# Altium footprint library 驱动第二板.PcbLib: 20 footprints (part 1 of 2)
Each footprint in its own frame and in the unit in brackets; x right, y up, seen from the top. Pads: shape width x height; smd on the part's side, far side on the other; paste and mask are expansions set on the pad; w line width, h text height; cw(c..) or ccw(c..) is an arc to the next point about the centre after c.
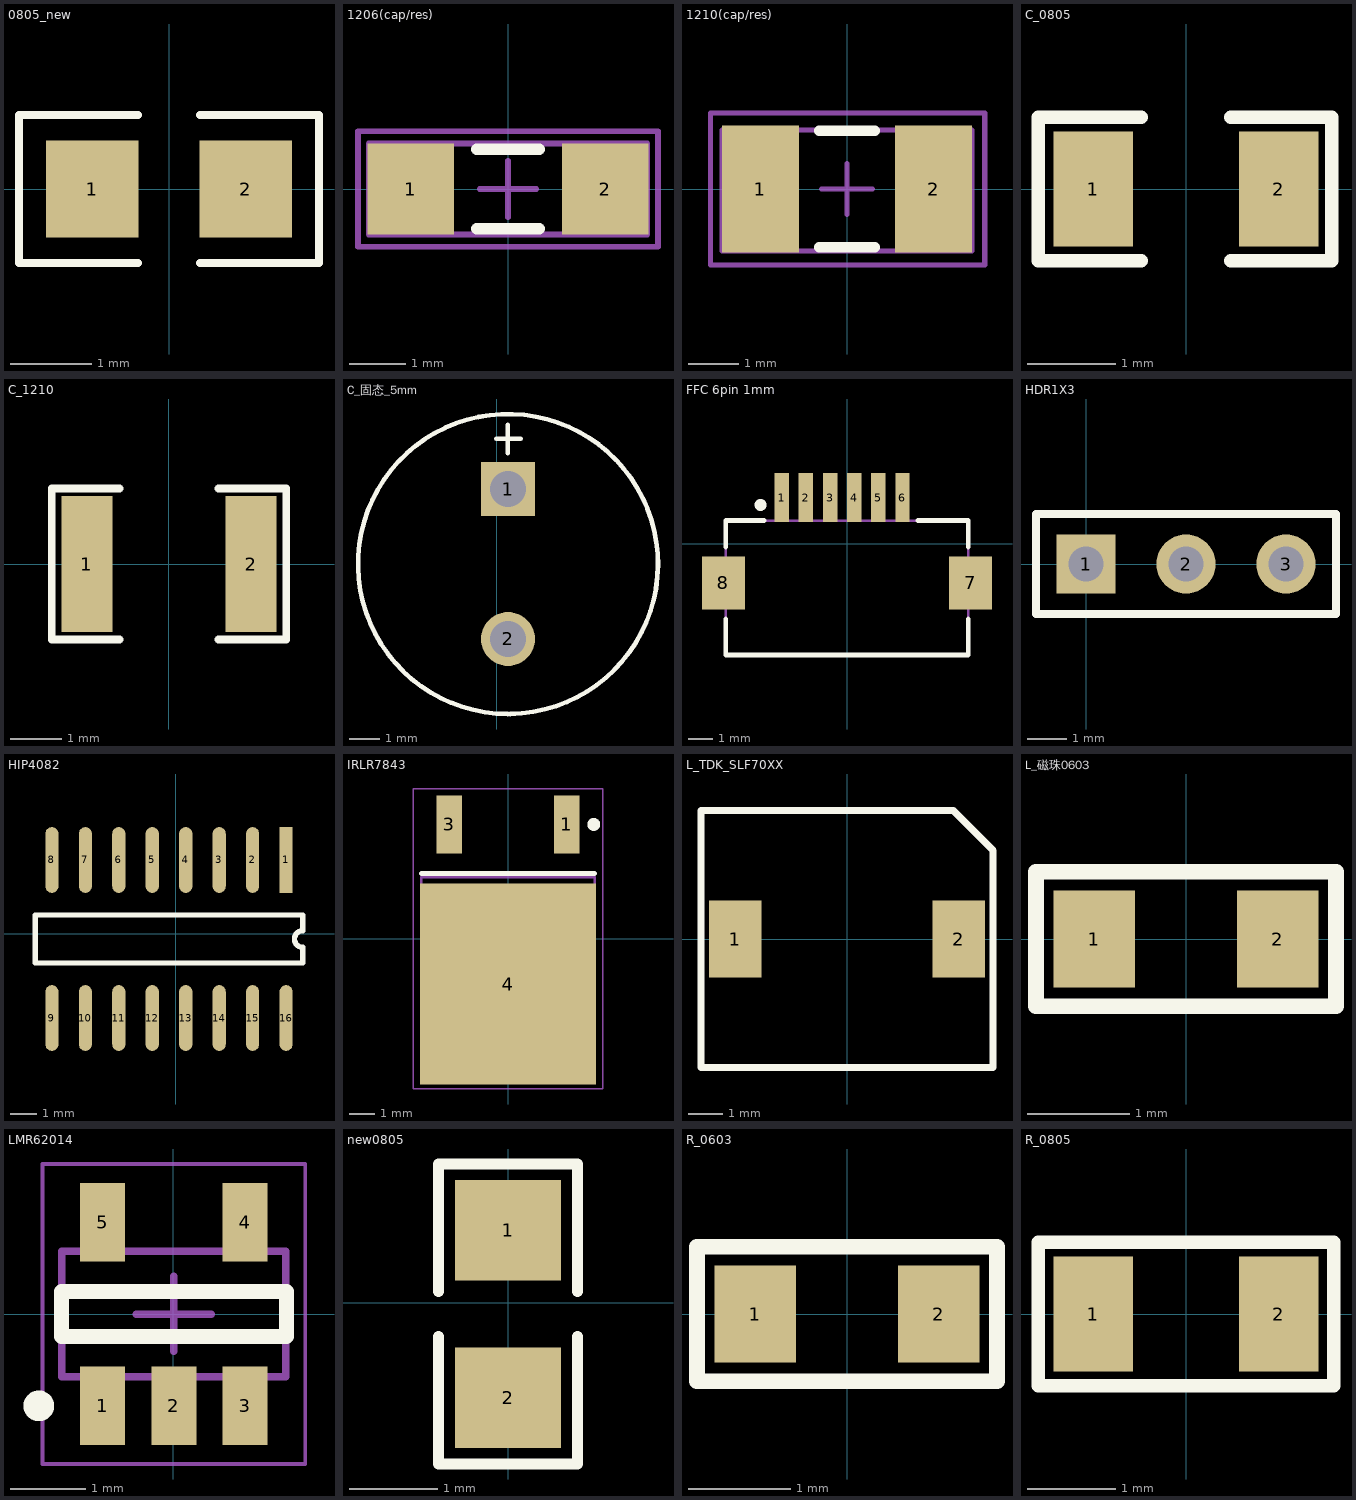
[diagram p0: the footprints below, top view; thin cyan lines are the x and y axes]

## 0805_new [mm]
height 0.9
pads (2):
  rect 1.14x1.2 smd: 1(-0.95,0) 2(0.95,0)
Top Overlay:
  lines w0.1: -1.854,0.889 -1.854,-0.914 -0.381,-0.914 ; -1.854,0.914 -0.381,0.914 ; 0.381,-0.914 1.854,-0.914 1.854,0.914 0.381,0.914

## 1206(cap/res) [mm]
height 0.9
pads (2):
  rect 1.52x1.6 smd: 1(-1.71,0) 2(1.71,0)
Top Overlay:
  lines w0.2: -0.55,-0.7 0.55,-0.7 ; -0.55,0.7 0.55,0.7
Mechanical 13:
  lines w0.1: -2.45,-0.8 2.45,-0.8 2.45,0.8 -2.45,0.8 -2.45,-0.8
Mechanical 15:
  lines w0.1: -0.5,0 0.5,0 ; 0,-0.5 0,0.5 ; -2.642,-1.016 2.642,-1.016 2.642,1.016 -2.642,1.016 -2.642,-1.016
3D body: height 1, standoff 0, extent -2.413,-0.864 2.464,0.813

## 1210(cap/res) [mm]
height 0.9
pads (2):
  rect 1.52x2.5 smd: 1(-1.71,0) 2(1.71,0)
Top Overlay:
  lines w0.2: -0.55,-1.15 0.55,-1.15 ; -0.55,1.15 0.55,1.15
Mechanical 13:
  lines w0.1: -2.464,-1.219 -2.464,1.168 2.464,1.168 2.464,-1.219 -2.464,-1.219
Mechanical 15:
  lines w0.1: -0.5,0 0.5,0 ; 0,-0.5 0,0.5 ; -2.692,-1.499 -2.692,1.499 2.718,1.499 2.718,-1.499 -2.692,-1.499
3D body: height 1.25, standoff 0, extent -2.489,-1.219 2.464,1.143

## C_0805 [mm] "贴片无极性电容0805封装"
height 0.5
pads (2):
  rect 0.9x1.3 smd: 1(-1.05,0) 2(1.05,0)
Top Overlay:
  lines w0.152: -0.508,-0.813 -1.676,-0.813 -1.676,0.813 -0.508,0.813 ; 0.508,-0.813 1.651,-0.813 1.651,0.813 0.508,0.813
3D body: height 0.76, standoff 0, extent -1,-0.6 1,0.6

## C_1210 [mm] "贴片无极性电容1210封装"
height 0.5
pads (2):
  rect 1x2.65 smd: 1(-1.6,0) 2(1.6,0)
Top Overlay:
  lines w0.152: -0.965,-1.473 -2.286,-1.473 -2.286,1.473 -0.965,1.473 ; 0.965,-1.473 2.286,-1.473 2.286,1.473 0.965,1.473
3D body: height 1.52, standoff 0, extent -1.6,-1.25 1.6,1.25

## C_固态_5mm [mm] "固态电容"
pads (2):
  rect 1.8x1.8 hole 1.2: 1(0.381,-5.918)
  round 1.8 hole 1.2: 2(0.381,-10.918)
Top Overlay:
  lines w0.152: -0.005,-4.237 0.808,-4.237 ; 0.376,-4.72 0.376,-3.78 ; 0.378,-13.418 cw(c0.381,-8.418) 0.455,-13.418

## FFC 6pin 1mm [mm]
height 0.9
pads (8):
  rect 0.6x2.05 smd: 1(-2.718,1.93) 2(-1.712,1.93) 3(-0.706,1.93) 4(0.3,1.93) 5(1.306,1.93) 6(2.311,1.93)
  rect 1.8x2.2 smd: 7(5.15,-1.625) 8(-5.15,-1.625)
Top Overlay:
  circle w0.25: c-3.6,1.625 r0.125
  lines w0.2: -5.05,-3.125 -5.05,-4.625 5.05,-4.625 5.05,-3.125 ; -5.05,-0.125 -5.05,0.975 -3.45,0.975 ; 2.95,0.975 5.05,0.975 5.05,-0.125
Mechanical 13:
  lines w0.1: -5.05,-4.625 5.05,-4.625 5.05,0.975 -5.05,0.975 -5.05,-4.625
3D body: height 2, standoff 0, extent -5.05,-4.625 5.05,0.975

## HDR1X3 [mm] "Connector; Header; 3 Position"
height 0.9
pads (3):
  rect 1.5x1.5 hole 0.9: 1(0,0)
  round 1.5 hole 0.9: 2(2.54,0) 3(5.08,0)
Top Overlay:
  lines w0.2: -1.27,-1.27 -1.27,1.27 6.35,1.27 6.35,-1.27 -1.27,-1.27

## HIP4082 [mm]
height 0.9
pads (16):
  rect 0.5x2.5 smd: 1(4.191,2.794)
  oval 0.5x2.5 smd: 2(2.921,2.794) 3(1.651,2.794) 4(0.381,2.794) 5(-0.889,2.794) 6(-2.159,2.794) 7(-3.429,2.794) 8(-4.699,2.794) 9(-4.699,-3.206) 10(-3.429,-3.206) 11(-2.159,-3.206) 12(-0.889,-3.206) 13(0.381,-3.206) 14(1.651,-3.206) 15(2.921,-3.206) 16(4.191,-3.206)
Top Overlay:
  lines w0.2: -5.334,-1.121 4.826,-1.121 4.826,-0.523 cw(c4.826,-0.206) 4.826,0.111 4.826,0.709 -5.334,0.709 -5.334,-1.121

## IRLR7843 [mm]
height 0.9
pads (3):
  rect 1x2.25 smd: 1(2.28,4.442) 3(-2.28,4.442)
  rect 6.85x7.8 smd: 4(0,-1.758)
Top Overlay:
  circle w0.25: c3.33,4.442 r0.125
  lines w0.2: -3.35,2.542 3.35,2.542
Mechanical 13:
  lines w0.1: -3.375,-3.828 -3.375,2.392 3.375,2.392 3.375,-3.828 -3.375,-3.828
Mechanical 15:
  lines w0.05: -3.675,-5.833 -3.675,5.817 3.675,5.817 3.675,-5.833 -3.675,-5.833
  lines w0.1: -0.5,-0.008 0.5,-0.008 ; 0,-0.508 0,0.492
3D body: height 2.38, standoff 0.46, extent -3.375,-3.828 3.375,2.392

## L_TDK_SLF70XX [mm] "TDK贴片功率电感"
pads (2):
  rect 1.5x2.2 smd: 1(-3.2,0) 2(3.2,0)
Top Overlay:
  lines w0.203: -4.191,-3.683 4.191,-3.683 4.191,2.54 3.048,3.683 -4.191,3.683 -4.191,-0.127 -4.191,-3.683

## L_磁珠0603 [mm] "贴片磁珠0805封装"
height 0.4
pads (2):
  rect 0.8x0.95 smd: 1(-0.9,0) 2(0.9,0)
Top Overlay:
  lines w0.152: -1.473,-0.66 0.457,-0.66 1.473,-0.66 1.473,0.66 0.457,0.66 -1.473,0.66 -1.473,-0.66
3D body: height 0.4, standoff 0, extent -0.8,-0.4 0.8,0.4

## LMR62014 [mm]
height 0.9
pads (5):
  rect 0.6x1.05 smd: 1(-0.942,-1.225) 2(0.008,-1.225) 3(0.958,-1.225) 4(0.958,1.225) 5(-0.942,1.225)
Top Overlay:
  circle w0.25: c-1.792,-1.225 r0.08
  lines w0.2: -1.492,-0.3 -1.492,0.3 1.508,0.3 1.508,-0.3 -1.492,-0.3
Mechanical 13:
  lines w0.1: -1.487,-0.835 1.503,-0.835 1.503,0.835 -1.487,0.835 -1.487,-0.835
Mechanical 15:
  lines w0.05: -1.742,-2 1.758,-2 1.758,2 -1.742,2 -1.742,-2
  lines w0.1: -0.492,0 0.508,0 ; 0.008,-0.5 0.008,0.5
3D body: height 1.19, standoff 0.05, extent -1.487,-0.835 1.503,0.835

## new0805 [mm]
height 0.9
pads (2):
  rect 1.2x1.14 smd: 1(0,0.823) 2(0,-1.077)
Top Overlay:
  lines w0.127: -0.787,-0.381 -0.787,-1.829 0.787,-1.829 0.787,-0.381 ; -0.787,0.127 -0.787,1.575 0.787,1.575 0.787,0.127

## R_0603 [mm] "贴片电阻0603封装"
height 0.4
pads (2):
  rect 0.8x0.95 smd: 1(-0.9,0) 2(0.9,0)
Top Overlay:
  lines w0.152: -1.473,-0.66 -1.473,0.66 0.457,0.66 1.473,0.66 1.473,-0.66 0.457,-0.66 -1.473,-0.66
3D body: height 0.4, standoff 0, extent -0.8,-0.4 0.8,0.4

## R_0805 [mm] "贴片电阻0805封装"
height 0.5
pads (2):
  rect 0.9x1.3 smd: 1(-1.05,0) 2(1.05,0)
Top Overlay:
  lines w0.152: -1.676,-0.813 -1.676,0.813 0.457,0.813 1.676,0.813 1.676,-0.813 0.457,-0.813 -1.676,-0.813
3D body: height 0.5, standoff 0, extent -1,-0.6 1,0.6